# Altium footprint library Fedor's_pcb.PcbLib: 174 footprints (part 7 of 14)
Each footprint in its own frame and in the unit in brackets; x right, y up, seen from the top. Pads: shape width x height; smd on the part's side, far side on the other; paste and mask are expansions set on the pad; w line width, h text height; cw(c..) or ccw(c..) is an arc to the next point about the centre after c.
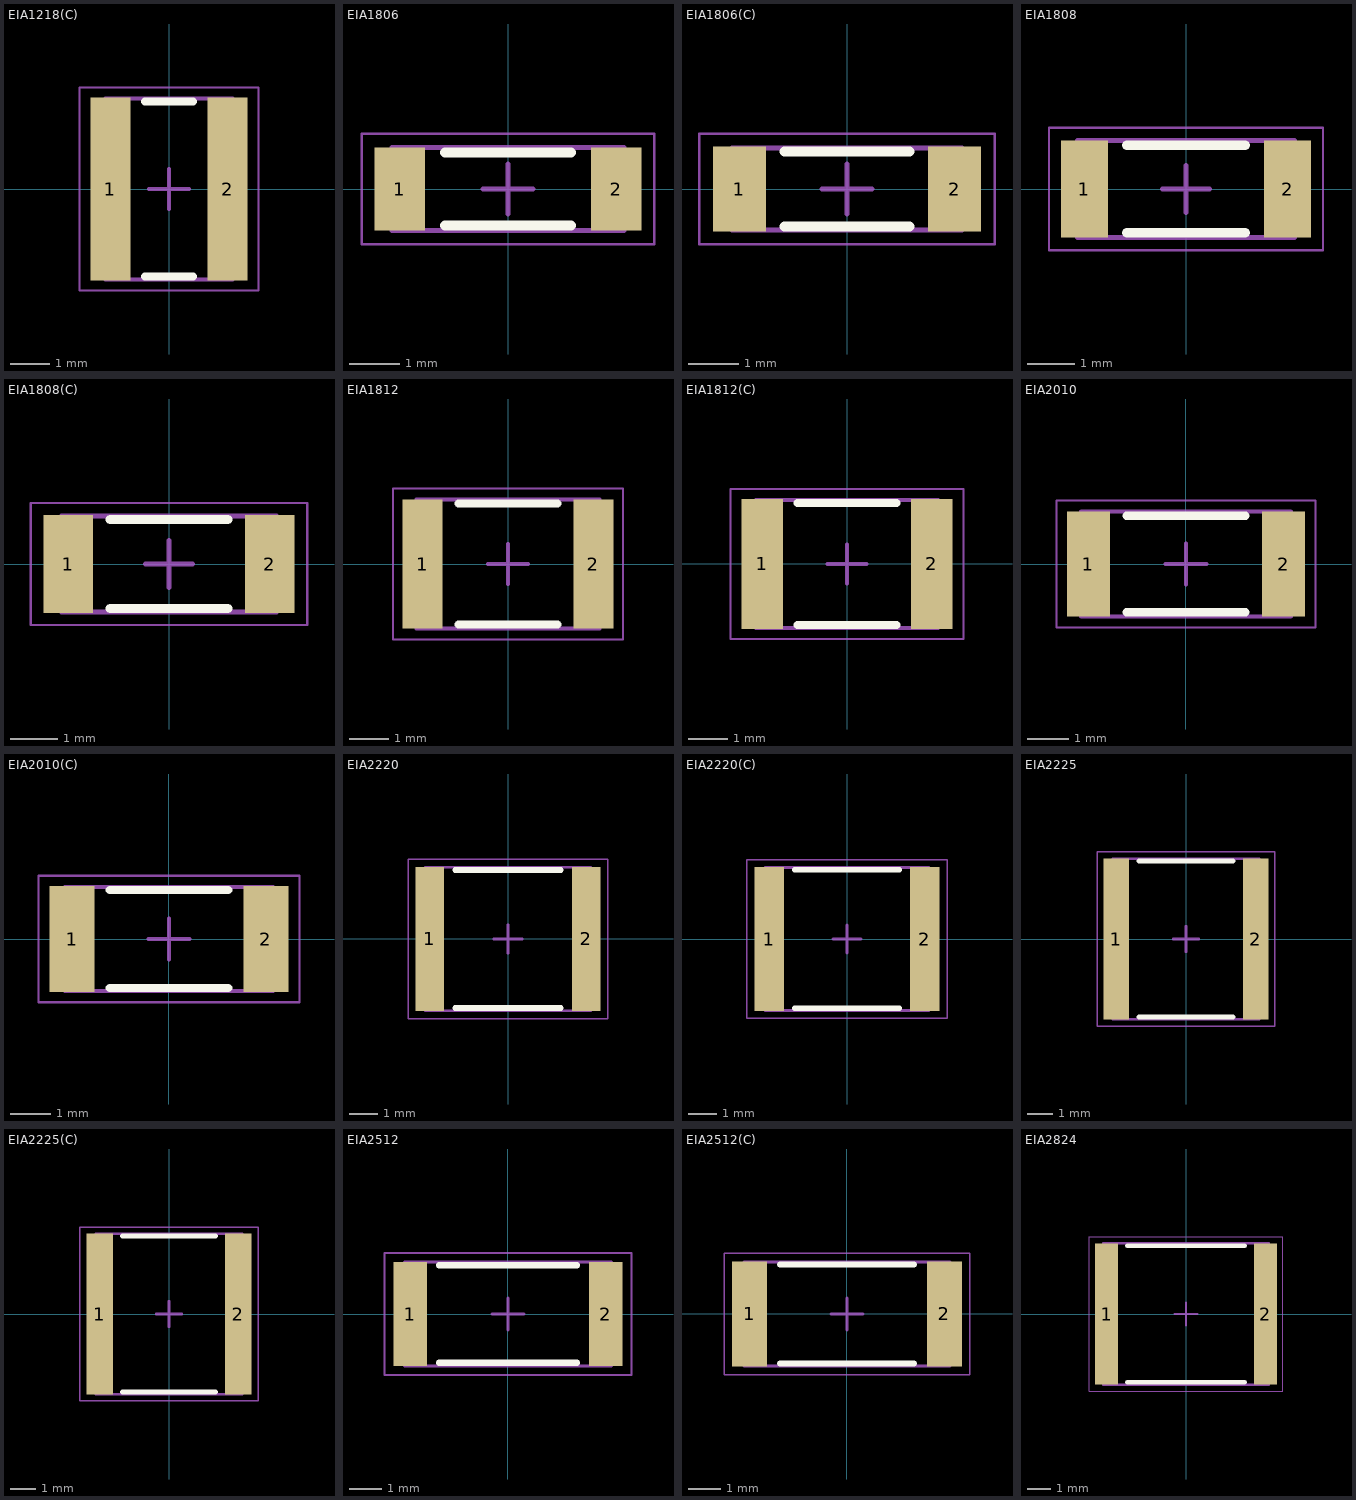
[diagram p6: the footprints below, top view; thin cyan lines are the x and y axes]

## EIA1218(C) [mm] "Chip Capacitor, 2-Leads, Body 3,15x4,50mm, IPC Medium Density"
height 1.9
pads (2):
  rect 1x4.6 smd: 1(-1.475,0) 2(1.475,0)
Top Overlay:
  lines w0.2: -0.6,-2.2 0.6,-2.2 ; -0.6,2.2 0.6,2.2
Mechanical 13:
  lines w0.1: -1.6,-2.275 -1.6,2.275 1.6,2.275 1.6,-2.275 -1.6,-2.275
Mechanical 15:
  lines w0.05: -2.25,-2.55 -2.25,2.55 2.25,2.55 2.25,-2.55 -2.25,-2.55
  lines w0.1: -0.5,0 0.5,0 ; 0,-0.5 0,0.5
3D body "CAPC3245X19N.step": height 1.9, standoff 0, extent -1.6,-2.275 1.6,2.275

## EIA1806 [mm] "Chip Resistor, 2-Leads, Body 4,50x1,60mm, IPC Medium Density"
height 1.6
pads (2):
  rect 1x1.65 smd: 1(-2.15,0) 2(2.15,0)
Top Overlay:
  lines w0.2: -1.25,-0.725 1.25,-0.725 ; -1.25,0.725 1.25,0.725
Mechanical 13:
  lines w0.1: -2.3,-0.825 -2.3,0.825 2.3,0.825 2.3,-0.825 -2.3,-0.825
Mechanical 15:
  lines w0.05: -2.9,-1.1 -2.9,1.1 2.9,1.1 2.9,-1.1 -2.9,-1.1
  lines w0.1: -0.5,0 0.5,0 ; 0,-0.5 0,0.5
3D body "RESC4516X16N.step": height 1.6, standoff 0, extent -2.3,-0.825 2.3,0.825

## EIA1806(C) [mm] "Chip Capacitor, 2-Leads, Body 4,50x1,60mm, IPC Medium Density"
height 1.6
pads (2):
  rect 1.05x1.7 smd: 1(-2.15,0) 2(2.15,0)
Top Overlay:
  lines w0.2: -1.25,-0.75 1.25,-0.75 ; -1.25,0.75 1.25,0.75
Mechanical 13:
  lines w0.1: -2.3,-0.825 -2.3,0.825 2.3,0.825 2.3,-0.825 -2.3,-0.825
Mechanical 15:
  lines w0.05: -2.95,-1.1 -2.95,1.1 2.95,1.1 2.95,-1.1 -2.95,-1.1
  lines w0.1: -0.5,0 0.5,0 ; 0,-0.5 0,0.5
3D body "CAPC4516X16N.step": height 1.6, standoff 0, extent -2.3,-0.825 2.3,0.825

## EIA1808 [mm] "Chip Resistor, 2-Leads, Body 4,50x2,00mm, IPC Medium Density"
height 2.05
pads (2):
  rect 1x2.05 smd: 1(-2.15,0) 2(2.15,0)
Top Overlay:
  lines w0.2: -1.25,-0.925 1.25,-0.925 ; -1.25,0.925 1.25,0.925
Mechanical 13:
  lines w0.1: -2.3,-1.025 -2.3,1.025 2.3,1.025 2.3,-1.025 -2.3,-1.025
Mechanical 15:
  lines w0.05: -2.9,-1.3 -2.9,1.3 2.9,1.3 2.9,-1.3 -2.9,-1.3
  lines w0.1: -0.5,0 0.5,0 ; 0,-0.5 0,0.5
3D body "RESC4520X20N.step": height 2.05, standoff 0, extent -2.3,-1.025 2.3,1.025

## EIA1808(C) [mm] "Chip Capacitor, 2-Leads, Body 4,50x2,00mm, IPC Medium Density"
height 2.05
pads (2):
  rect 1.05x2.1 smd: 1(-2.15,0) 2(2.15,0)
Top Overlay:
  lines w0.2: -1.25,-0.95 1.25,-0.95 ; -1.25,0.95 1.25,0.95
Mechanical 13:
  lines w0.1: -2.3,-1.025 -2.3,1.025 2.3,1.025 2.3,-1.025 -2.3,-1.025
Mechanical 15:
  lines w0.05: -2.95,-1.3 -2.95,1.3 2.95,1.3 2.95,-1.3 -2.95,-1.3
  lines w0.1: -0.5,0 0.5,0 ; 0,-0.5 0,0.5
3D body "CAPC4520X20N.step": height 2.05, standoff 0, extent -2.3,-1.025 2.3,1.025

## EIA1812 [mm] "Chip Resistor, 2-Leads, Body 4,50x3,20mm, IPC Medium Density"
height 2.3
pads (2):
  rect 1x3.25 smd: 1(-2.15,0) 2(2.15,0)
Top Overlay:
  lines w0.2: -1.25,-1.525 1.25,-1.525 ; -1.25,1.525 1.25,1.525
Mechanical 13:
  lines w0.1: -2.3,-1.625 -2.3,1.625 2.3,1.625 2.3,-1.625 -2.3,-1.625
Mechanical 15:
  lines w0.05: -2.9,-1.9 -2.9,1.9 2.9,1.9 2.9,-1.9 -2.9,-1.9
  lines w0.1: -0.5,0 0.5,0 ; 0,-0.5 0,0.5
3D body "RESC4532X23N.step": height 2.3, standoff 0, extent -2.3,-1.625 2.3,1.625

## EIA1812(C) [mm] "Chip Capacitor, 2-Leads, Body 4,50x3,20mm, IPC Medium Density"
height 2.3
pads (2):
  rect 1.05x3.3 smd: 1(-2.15,0) 2(2.15,0)
Top Overlay:
  lines w0.2: -1.25,-1.55 1.25,-1.55 ; -1.25,1.55 1.25,1.55
Mechanical 13:
  lines w0.1: -2.3,-1.625 -2.3,1.625 2.3,1.625 2.3,-1.625 -2.3,-1.625
Mechanical 15:
  lines w0.05: -2.95,-1.9 -2.95,1.9 2.95,1.9 2.95,-1.9 -2.95,-1.9
  lines w0.1: -0.5,0 0.5,0 ; 0,-0.5 0,0.5
3D body "CAPC4532X23N.step": height 2.3, standoff 0, extent -2.3,-1.625 2.3,1.625

## EIA2010 [mm] "3/4W 200-400V"
height 0.65
pads (2):
  rect 1.05x2.55 smd: 1(-2.375,0) 2(2.375,0)
Top Overlay:
  lines w0.2: -1.45,-1.175 1.45,-1.175 ; -1.45,1.175 1.45,1.175
Mechanical 13:
  lines w0.1: -2.55,-1.275 -2.55,1.275 2.55,1.275 2.55,-1.275 -2.55,-1.275
Mechanical 15:
  lines w0.05: -3.15,-1.55 -3.15,1.55 3.15,1.55 3.15,-1.55 -3.15,-1.55
  lines w0.1: -0.5,0 0.5,0 ; 0,-0.5 0,0.5
3D body "RESC5025X06N.step": height 0.65, standoff 0, extent -2.55,-1.275 2.55,1.275

## EIA2010(C) [mm] "3/4W 200-400V"
height 0.65
pads (2):
  rect 1.1x2.6 smd: 1(-2.375,0) 2(2.375,0)
Top Overlay:
  lines w0.2: -1.45,-1.2 1.45,-1.2 ; -1.45,1.2 1.45,1.2
Mechanical 13:
  lines w0.1: -2.55,-1.275 -2.55,1.275 2.55,1.275 2.55,-1.275 -2.55,-1.275
Mechanical 15:
  lines w0.05: -3.2,-1.55 -3.2,1.55 3.2,1.55 3.2,-1.55 -3.2,-1.55
  lines w0.1: -0.5,0 0.5,0 ; 0,-0.5 0,0.5
3D body "CAPC5025X06N.step": height 0.65, standoff 0, extent -2.55,-1.275 2.55,1.275

## EIA2220 [mm] "Chip Resistor, 2-Leads, Body 5,70x5,00mm, IPC Medium Density"
height 0.55
pads (2):
  rect 1x5.05 smd: 1(-2.75,0) 2(2.75,0)
Top Overlay:
  lines w0.2: -1.85,-2.425 1.85,-2.425 ; -1.85,2.425 1.85,2.425
Mechanical 13:
  lines w0.1: -2.9,-2.525 -2.9,2.525 2.9,2.525 2.9,-2.525 -2.9,-2.525
Mechanical 15:
  lines w0.05: -3.5,-2.8 -3.5,2.8 3.5,2.8 3.5,-2.8 -3.5,-2.8
  lines w0.1: -0.5,0 0.5,0 ; 0,-0.5 0,0.5
3D body "RESC5750X06N.step": height 0.55, standoff 0, extent -2.9,-2.525 2.9,2.525

## EIA2220(C) [mm] "Chip Capacitor, 2-Leads, Body 5,70x5,00mm, IPC Medium Density"
height 0.55
pads (2):
  rect 1.05x5.1 smd: 1(-2.75,0) 2(2.75,0)
Top Overlay:
  lines w0.2: -1.85,-2.45 1.85,-2.45 ; -1.85,2.45 1.85,2.45
Mechanical 13:
  lines w0.1: -2.9,-2.525 -2.9,2.525 2.9,2.525 2.9,-2.525 -2.9,-2.525
Mechanical 15:
  lines w0.05: -3.55,-2.8 -3.55,2.8 3.55,2.8 3.55,-2.8 -3.55,-2.8
  lines w0.1: -0.5,0 0.5,0 ; 0,-0.5 0,0.5
3D body "CAPC5750X06N.step": height 0.55, standoff 0, extent -2.9,-2.525 2.9,2.525

## EIA2225 [mm] "Chip Resistor, 2-Leads, Body 5,70x6,30mm, IPC Medium Density"
height 2.05
pads (2):
  rect 1x6.35 smd: 1(-2.75,0) 2(2.75,0)
Top Overlay:
  lines w0.2: -1.85,-3.075 1.85,-3.075 ; -1.85,3.075 1.85,3.075
Mechanical 13:
  lines w0.1: -2.9,-3.175 -2.9,3.175 2.9,3.175 2.9,-3.175 -2.9,-3.175
Mechanical 15:
  lines w0.05: -3.5,-3.45 -3.5,3.45 3.5,3.45 3.5,-3.45 -3.5,-3.45
  lines w0.1: -0.5,0 0.5,0 ; 0,-0.5 0,0.5
3D body "RESC5763X20N.step": height 2.05, standoff 0, extent -2.9,-3.175 2.9,3.175

## EIA2225(C) [mm] "Chip Capacitor, 2-Leads, Body 5,70x6,30mm, IPC Medium Density"
height 2.05
pads (2):
  rect 1.05x6.4 smd: 1(-2.75,0) 2(2.75,0)
Top Overlay:
  lines w0.2: -1.85,-3.1 1.85,-3.1 ; -1.85,3.1 1.85,3.1
Mechanical 13:
  lines w0.1: -2.9,-3.175 -2.9,3.175 2.9,3.175 2.9,-3.175 -2.9,-3.175
Mechanical 15:
  lines w0.05: -3.55,-3.45 -3.55,3.45 3.55,3.45 3.55,-3.45 -3.55,-3.45
  lines w0.1: -0.5,0 0.5,0 ; 0,-0.5 0,0.5
3D body "CAPC5763X20N.step": height 2.05, standoff 0, extent -2.9,-3.175 2.9,3.175

## EIA2512 [mm] "1W 200-400V"
height 0.65
pads (2):
  rect 1.05x3.25 smd: 1(-3.05,0) 2(3.05,0)
Top Overlay:
  lines w0.2: -2.15,-1.525 2.15,-1.525 ; -2.15,1.525 2.15,1.525
Mechanical 13:
  lines w0.1: -3.225,-1.625 3.225,-1.625 3.225,1.625 -3.225,1.625 -3.225,-1.625
Mechanical 15:
  lines w0.05: -3.85,-1.9 3.85,-1.9 3.85,1.9 -3.85,1.9 -3.85,-1.9
  lines w0.1: -0.5,0 0.5,0 ; 0,-0.5 0,0.5
3D body "RESC6432X06N.step": height 0.65, standoff 0, extent -3.225,-1.625 3.225,1.625

## EIA2512(C) [mm] "1W 200-400V"
height 0.65
pads (2):
  rect 1.1x3.3 smd: 1(-3.05,0) 2(3.05,0)
Top Overlay:
  lines w0.2: -2.1,-1.55 2.1,-1.55 ; -2.1,1.55 2.1,1.55
Mechanical 13:
  lines w0.1: -3.225,-1.625 -3.225,1.625 3.225,1.625 3.225,-1.625 -3.225,-1.625
Mechanical 15:
  lines w0.05: -3.85,-1.9 -3.85,1.9 3.85,1.9 3.85,-1.9 -3.85,-1.9
  lines w0.1: -0.5,0 0.5,0 ; 0,-0.5 0,0.5
3D body "CAPC6432X06N.step": height 0.65, standoff 0, extent -3.225,-1.625 3.225,1.625

## EIA2824 [mm] "Chip Resistor, 2-Leads, Body 7,10x6,10mm, IPC Medium Density"
height 3.95
pads (2):
  rect 1x6.15 smd: 1(-3.45,0) 2(3.45,0)
Top Overlay:
  lines w0.2: -2.55,-2.975 2.55,-2.975 ; -2.55,2.975 2.55,2.975
Mechanical 13:
  lines w0.1: -3.6,-3.075 -3.6,3.075 3.6,3.075 3.6,-3.075 -3.6,-3.075
Mechanical 15:
  lines w0.05: -4.2,-3.35 -4.2,3.35 4.2,3.35 4.2,-3.35 -4.2,-3.35
  lines w0.1: -0.5,0 0.5,0 ; 0,-0.5 0,0.5
3D body "RESC7161X40N.step": height 3.95, standoff 0, extent -3.6,-3.075 3.6,3.075